# Altium schematic symbol library ti-audio.SchLib: 2 symbols
Pins are listed as number, name and electrical type; pins without a type are passive.

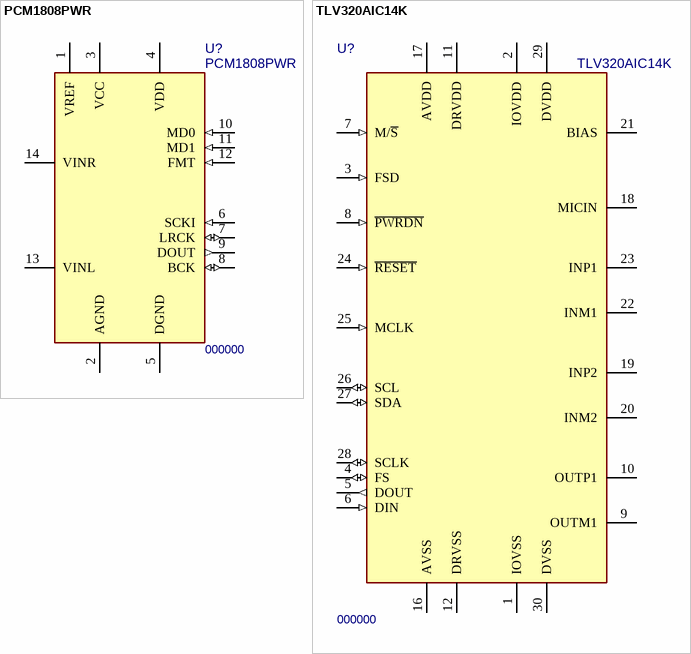
[diagram p0: symbols PCM1808PWR to TLV320AIC14K]

## PCM1808PWR
designator U?, comment 000000  value PCM1808PWR
Audio ADC - 24bits, Stereo, 96KHz; MF: Texas Instruments; Package: TSSOP-30; PN: 000000; ExtraInfo: *; Digi-Key PN: 296-26307-1-ND; Price: 0.88000
footprint PW (R-PDSO-G14) (TSOP, 14-Leads, Body 5.1x4.5mm (max), Pitch 0.65mm, IPC Medium Density)
pins: 1 VREF (power), 2 AGND (power), 3 VCC (power), 4 VDD (power), 5 DGND (power), 6 SCKI (in), 7 LRCK (io), 8 BCK (io), 9 DOUT (out), 10 MD0 (in), 11 MD1 (in), 12 FMT (in), 13 VINL, 14 VINR
1 alternate drawing of the same symbol

## TLV320AIC14K
designator U?, comment 000000  value TLV320AIC14K
Low-Power Mono Voice Band CODEC; Package: TSSOP-30; PN: 000000; ExtraInfo: *
footprint DBT (R-PDSO-G30) (TSSOP, 30-Leads, Body 7.9x4.5mm (max), Pitch 0.50mm, IPC Medium Density)
pins: 1 IOVSS (power), 2 IOVDD (power), 3 FSD (in), 4 FS (io), 5 DOUT (out), 6 DIN (in), 7 M/~{S} (in), 8 ~{PWRDN} (in), 9 OUTM1, 10 OUTP1, 11 DRVDD (power), 12 DRVSS (power), 16 AVSS (power), 17 AVDD (power), 18 MICIN, 19 INP2, 20 INM2, 21 BIAS, 22 INM1, 23 INP1, 24 ~{RESET} (in), 25 MCLK (in), 26 SCL (io), 27 SDA (io), 28 SCLK (io), 29 DVDD (power), 30 DVSS (power)
1 alternate drawing of the same symbol